# EAGLE library part LT8390EFE (library DSDEagleLibrary)
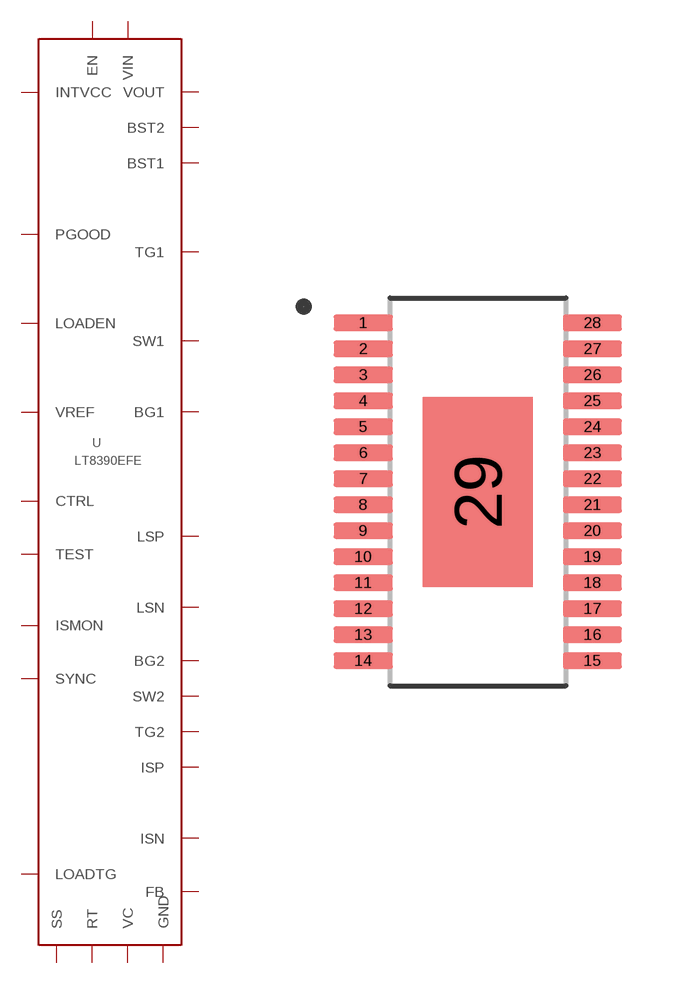
[diagram p63: symbol with the pads of SOP65P640X120-29N; footprint SOP65P640X120-29N]

Designator prefix -

## LT8390EFE  [SOP65P640X120-29N]
1  BG1
2  BST1
3  SW1
4  TG1
5  LSP
6  LSN
7  VIN
8  INTVCC
9  EN
10  TEST
11  LOADEN
12  VREF
13  CTRL
14  ISP
15  ISN
16  ISMON
17  PGOOD
18  SS
19  FB
20  VC
21  RT
22  SYNC
23  LOADTG
24  VOUT
25  TG2
26  SW2
27  BST2
28  BG2
29  GND

## Footprint SOP65P640X120-29N (pad centres in mm)
smd 1.48 x 0.41: 1 -2.865,4.225; 2 -2.865,3.575; 3 -2.865,2.925; 4 -2.865,2.275; 5 -2.865,1.625; 6 -2.865,0.975; 7 -2.865,0.325; 8 -2.865,-0.325; 9 -2.865,-0.975; 10 -2.865,-1.625; 11 -2.865,-2.275; 12 -2.865,-2.925; 13 -2.865,-3.575; 14 -2.865,-4.225; 15 2.865,-4.225; 16 2.865,-3.575; 17 2.865,-2.925; 18 2.865,-2.275; 19 2.865,-1.625; 20 2.865,-0.975; 21 2.865,-0.325; 22 2.865,0.325; 23 2.865,0.975; 24 2.865,1.625; 25 2.865,2.275; 26 2.865,2.925; 27 2.865,3.575; 28 2.865,4.225
smd 2.74 x 4.75: 29 0,0